# Altium schematic symbol library Transistors.SchLib: 5 symbols
Pins are listed as number, name and electrical type; pins without a type are passive.

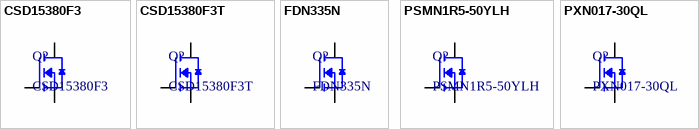
[diagram p0: symbols CSD15380F3 to PXN017-30QL]

## CSD15380F3
designator Q?
N-Channel 20 V 500mA (Ta) 500mW (Ta) Surface Mount 3-PICOSTAR; Manufacturer: Texas Instruments; Configuration: Single; Drain Current - Continuous (Id): 0.5A; Drain Current - Pulsed (Id): 1.6A; Drain to Source Voltage (Vdss): 20V; Eco Plan: RoHS; Gate Charge (Qg) (Max) @ Vgs: 0.281 nC @ 10 V; Gate Level: Logic; Gate−Source Voltage(Vgss): ±10V; Input Capacitance (Ciss) (Max) @ Vds: 10.5 pF @ 10 V; Rds On (Max) @ Id, Vgs: 1190mOhm @ 100mA, 8V; Vgs(th) (Max) @ Id: 1.35V @ 2.5µA; Category: Logic Level N-Channel MOSFET; Channel Polarity: N-Channel; Datasheet: https://www.ti.com/lit/gpn/csd15380f3; Operating Temperature: -55°C ~ 150°C (TJ); Power Dissipation (Max): 500mW (Ta); Ratings: -; Series: FemtoFET; Supplier 1: Digi-Key; Supplier Part Number 1: 296-44373-1-ND
footprint TI-YJM0003A (CSD15380F3)
pins: D "Drain", G "Gate", S "Source"

## CSD15380F3T
designator Q?
N-Channel 20 V 500mA (Ta) 500mW (Ta) Surface Mount 3-PICOSTAR; Manufacturer: Texas Instruments; Configuration: Single; Drain Current - Continuous (Id): 0.5A; Drain Current - Pulsed (Id): 1.6A; Drain to Source Voltage (Vdss): 20V; Eco Plan: RoHS; Gate Charge (Qg) (Max) @ Vgs: 0.281 nC @ 10 V; Gate Level: Logic; Gate−Source Voltage(Vgss): ±10V; Input Capacitance (Ciss) (Max) @ Vds: 10.5 pF @ 10 V; Rds On (Max) @ Id, Vgs: 1190mOhm @ 100mA, 8V; Vgs(th) (Max) @ Id: 1.35V @ 2.5µA; Category: Logic Level N-Channel MOSFET; Channel Polarity: N-Channel; Datasheet: https://www.ti.com/lit/gpn/csd15380f3; Operating Temperature: -55°C ~ 150°C (TJ); Power Dissipation (Max): 500mW (Ta); Ratings: -; Series: FemtoFET; Supplier 1: Digi-Key; Supplier Part Number 1: 296-44469-1-ND
footprint TI-YJM0003A (CSD15380F3)
pins: D "Drain", G "Gate", S "Source"

## FDN335N
designator Q?
N-Channel 20 V 1.7A (Ta) 500mW (Ta) Surface Mount SOT-23-3; Manufacturer: onsemi; Configuration: Single; Drain Current - Pulsed (Id): 8A; Drain to Source Voltage (Vdss): 20V; Gate Charge (Qg) (Max) @ Vgs: 5 nC @ 4.5 V; Gate Level: Logic; Gate−Source Voltage(Vgss): ±8V; Input Capacitance (Ciss) (Max) @ Vds: 310 pF @ 10 V; Rds On (Max) @ Id, Vgs: 70mOhm @ 1.7A, 4.5V; Vgs(th) (Max) @ Id: 1.5V @ 250µA; Category: Logic Level N-Channel MOSFET; Channel Polarity: N-Channel; Datasheet: https://www.onsemi.com/download/data-sheet/pdf/fdn335n-d.pdf; Drain Current - Continuous (Id): 1.7A; Eco Plan: -; Operating Temperature: -55°C ~ 150°C (TJ); Power Dissipation (Max): 500mW (Ta); Ratings: -; Series: PowerTrench; Supplier 1: Digi-Key; Supplier Part Number 1: FDN335NCT-ND
footprint FDN335N (N-Channel 2.5V Specified PowerTrench™ MOSFET 20V, 1.7A, 70mO)
simulation model FDN335N (Model Description)
pins: D "Drain", G "Gate", S "Source"

## PSMN1R5-50YLH
designator Q?
N-Channel 50 V 200A (Ta) 333W (Ta) Surface Mount LFPAK56E; Manufacturer: Nexperia; Configuration: Single; Drain Current - Pulsed (Id): 1159A; Drain to Source Voltage (Vdss): 50V; Eco Plan: RoHS; Gate Charge (Qg) (Max) @ Vgs: 181 nC @ 10 V; Gate Level: Logic; Gate−Source Voltage(Vgss): ±20V; Input Capacitance (Ciss) (Max) @ Vds: 11143 pF @ 25 V; Rds On (Max) @ Id, Vgs: 2mOhm @ 25A, 4.5V; Vgs(th) (Max) @ Id: 1.61V @ 1mA; Category: Application Specific N-Channel Power MOSFET; Channel Polarity: N-Channel; Datasheet: https://assets.nexperia.com/documents/data-sheet/PSMN1R5-50YLH.pdf; Drain Current - Continuous (Id): 200A; Operating Temperature: -55°C ~ 175°C (TJ); Power Dissipation (Max): 333W (Ta); Ratings: -; Series: ASFET; Supplier 1: Digi-Key; Supplier Part Number 1: 1727-PSMN1R5-50YLHXCT-ND
footprint NEXPERIA-LFPAK56E (Power-SO8 (SOT1023))
simulation model PSMN1R5-50YLH (Model Description)
pins: D "Drain", G "Gate", S "Source"

## PXN017-30QL
designator Q?
N-Channel 30 V 7.9A (Ta), 20A (Tc) 1.7W (Ta), 10.9W (Tc) Surface Mount MLPAK33; Manufacturer: Nexperia; Configuration: Single; Drain Current - Continuous (Id): 12A; Drain Current - Pulsed (Id): 163A; Drain to Source Voltage (Vdss): 30V; Eco Plan: RoHS; Gate Charge (Qg) (Max) @ Vgs: 7.7 nC @ 10 V; Gate Level: Logic; Gate−Source Voltage(Vgss): ±20V; Input Capacitance (Ciss) (Max) @ Vds: 350 pF @ 15 V; Rds On (Max) @ Id, Vgs: 17.4mOhm @ 7.9A, 10V; Vgs(th) (Max) @ Id: 2.2V @ 250µA; Category: Power MOSFET; Channel Polarity: N-Channel; Datasheet: https://assets.nexperia.com/documents/data-sheet/PXN017-30QL.pdf; Operating Temperature: -55°C ~ 150°C (TJ); Power Dissipation (Max): 1.7W (Ta); Ratings: -; Series: TrenchMOS; Supplier 1: Digi-Key; Supplier Part Number 1: 1727-PXN017-30QLJCT-ND
footprint NEXPERIA-MLPAK33 (SOT8002-1)
simulation model PXN017-30QL (Model Description)
pins: D "Drain", G "Gate", S "Source"